# Altium footprint library TRASFOR.PcbLib: 1 footprints
Each footprint in its own frame and in the unit in brackets; x right, y up, seen from the top. Pads: shape width x height; smd on the part's side, far side on the other; paste and mask are expansions set on the pad; w line width, h text height; cw(c..) or ccw(c..) is an arc to the next point about the centre after c.
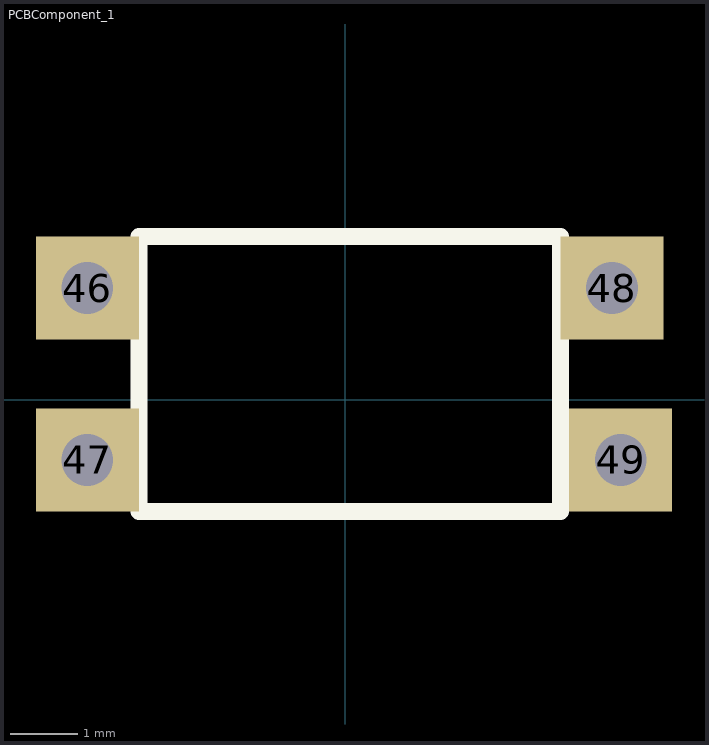
[diagram p0: the footprint, top view; thin cyan lines are the x and y axes]

## PCBComponent_1 [mil]
pads (4):
  rect 60x60 hole 30: 46(-150,65) 47(-150,-35) 48(155,65) 49(160,-35)
Top Overlay:
  lines w10: -120,-65 125,-65 125,95 -120,95 -120,-65